# Altium footprint library sm-electromechanical.PcbLib: 4 footprints
Each footprint in its own frame and in the unit in brackets; x right, y up, seen from the top. Pads: shape width x height; smd on the part's side, far side on the other; paste and mask are expansions set on the pad; w line width, h text height; cw(c..) or ccw(c..) is an arc to the next point about the centre after c.
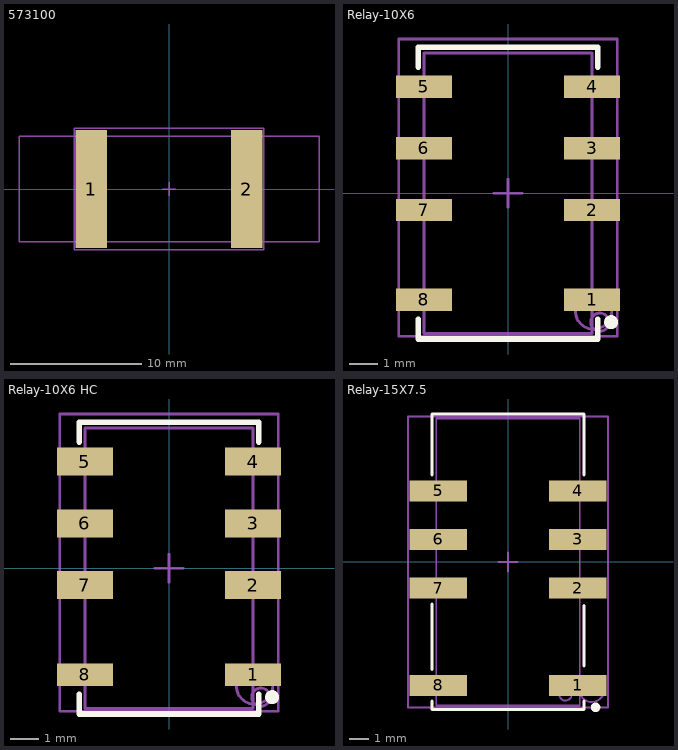
[diagram p0: the footprints below, top view; thin cyan lines are the x and y axes]

## 573100 [mm] "Heatsink .4\" D-PAK"
height 5.56
pads (2):
  rect 2.4x9 smd: 1(-5.9,0) 2(5.9,0)
Mechanical 13:
  lines w0.1: -0.5,0 0.5,0 ; 0,-0.5 0,0.5 ; -11.4,-4 -11.4,4 11.4,4 11.4,-4 -11.4,-4
Mechanical 15:
  lines w0.1: -7.2,-4.6 -7.2,4.6 7.2,4.6 7.2,-4.6 -7.2,-4.6
  text ".Designator" at -1,0 h0.5
3D body "User Library-HS Thermal.step": height 10.15, standoff -0.01, extent -11.43,-4 11.43,4

## Relay-10X6 [mm] "Relay 10mm X 6mm SMT Gull wings"
height 5.56
pads (8):
  rect 2x0.8 smd: 1(3,-3.8) 2(3,-0.6) 3(3,1.6) 4(3,3.8) 5(-3,3.8) 6(-3,1.6) 7(-3,-0.6) 8(-3,-3.8)
Top Overlay:
  circle w0.25: c3.675,-4.6 r0.125
  lines w0.2: -3.2,-4.5 -3.2,-5.2 3.2,-5.2 3.2,-4.5 ; -3.2,4.5 -3.2,5.2 3.2,5.2 3.2,4.5
Mechanical 13:
  circle w0.1: c3.275,-4.6 r0.325
  lines w0.1: -0.5,0 0.5,0 ; 0,-0.5 0,0.5 ; -3,-5 -3,5 3,5 3,-5 -3,-5
Mechanical 15:
  circle w0.1: c3.051,-4.2 r0.649
  lines w0.1: -3.9,-5.1 -3.9,5.5 3.9,5.5 3.9,-5.1 -3.9,-5.1
  text ".Designator" at -0.275,1.375 h0.5
3D body "c-1462037-2-a-3d.stp": height 5.65, standoff 0, extent -3.758,-5 3.758,5

## Relay-10X6 HC [mm] "Relay 10mm X 6mm SMT Gull wings"
height 5.56
pads (8):
  rect 2x0.8 smd: 1(3,-3.8) 8(-3,-3.8)
  rect 2x1 smd: 2(3,-0.6) 3(3,1.6) 4(3,3.8) 5(-3,3.8) 6(-3,1.6) 7(-3,-0.6)
Top Overlay:
  circle w0.25: c3.675,-4.6 r0.125
  lines w0.2: -3.2,-4.5 -3.2,-5.2 3.2,-5.2 3.2,-4.5 ; -3.2,4.5 -3.2,5.2 3.2,5.2 3.2,4.5
Mechanical 13:
  circle w0.1: c3.275,-4.6 r0.325
  lines w0.1: -0.5,0 0.5,0 ; 0,-0.5 0,0.5 ; -3,-5 -3,5 3,5 3,-5 -3,-5
Mechanical 15:
  circle w0.1: c3.051,-4.2 r0.649
  lines w0.1: -3.9,-5.1 -3.9,5.5 3.9,5.5 3.9,-5.1 -3.9,-5.1
  text ".Designator" at -0.275,1.375 h0.5
3D body "c-1462037-2-a-3d.stp": height 5.65, standoff 0, extent -3.758,-5 3.758,5

## Relay-15X7.5 [mm] "Relay 15mm X 7.5mm SMT Gull wings"
height 10
pads (8):
  rect 3x1.1 smd: 1(3.65,-6.45) 2(3.65,-1.37) 3(3.65,1.17) 4(3.65,3.71) 5(-3.65,3.71) 6(-3.65,1.17) 7(-3.65,-1.37) 8(-3.65,-6.45)
Top Overlay:
  circle w0.25: c4.575,-7.6 r0.125
  lines w0.16: -3.975,-7.275 -3.975,-7.725 3.975,-7.725 3.975,-7.275 ; -3.975,-5.625 -3.975,-2.2 ; -3.975,4.55 -3.975,7.725 3.975,7.725 3.975,4.55 ; 3.975,-5.45 3.975,-2.275
Mechanical 13:
  circle w0.1: c3,-6.925 r0.325
  lines w0.1: -0.5,0 0.5,0 ; 0,-0.5 0,0.5 ; -3.75,-7.5 -3.75,7.5 3.75,7.5 3.75,-7.5 -3.75,-7.5
Mechanical 15:
  circle w0.1: c4.376,-6.675 r0.649
  lines w0.1: -5.225,-7.6 5.225,-7.6 5.225,7.6 -5.225,7.6 -5.225,-7.6
  text ".Designator" at -0.275,1.375 h0.5
3D body "c-1393788-4-a5-3d.stp": height 10.4, standoff 0, extent -4.7,-7.25 4.7,7.25